# Altium integrated library MergenElektronik_FuseHolders_BladeType.IntLib: 1 symbol
Pins are listed as number, name and electrical type; pins without a type are passive.

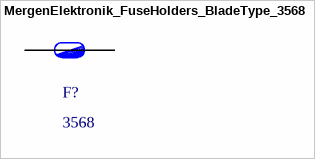
[diagram p0: symbol MergenElektronik_FuseHolders_BladeType_3568]

## MergenElektronik_FuseHolders_BladeType_3568
designator F?, comment 3568
Mergen Elektronik - Fuse Holder - Blade Type - 3568; Manufacturer: Keystone Electronics; Voltage Rated: 500V; Current Rating: 30A; Digi-Key Number: 36-3568-ND; Model: Blade Type; Mounting Type: THT; Mouser Number: 534-3568; Package: 3568; Temperature: -50°C up to+145°C; Value: 3568; Farnell Number: 2504685; Supplier 1: Digi-Key; Supplier 2: Mouser; Supplier Part Number 1: 36-3568-ND; Supplier Part Number 2: 534-3568; Manufacturer Number: 3568
footprint MergenElektronik_FuseHolders_BladeType_3568 (3568)
pins: 1, 2